# Altium schematic symbol library PCB_Project.SCHLIB: 9 symbols
Pins are listed as number, name and electrical type; pins without a type are passive.

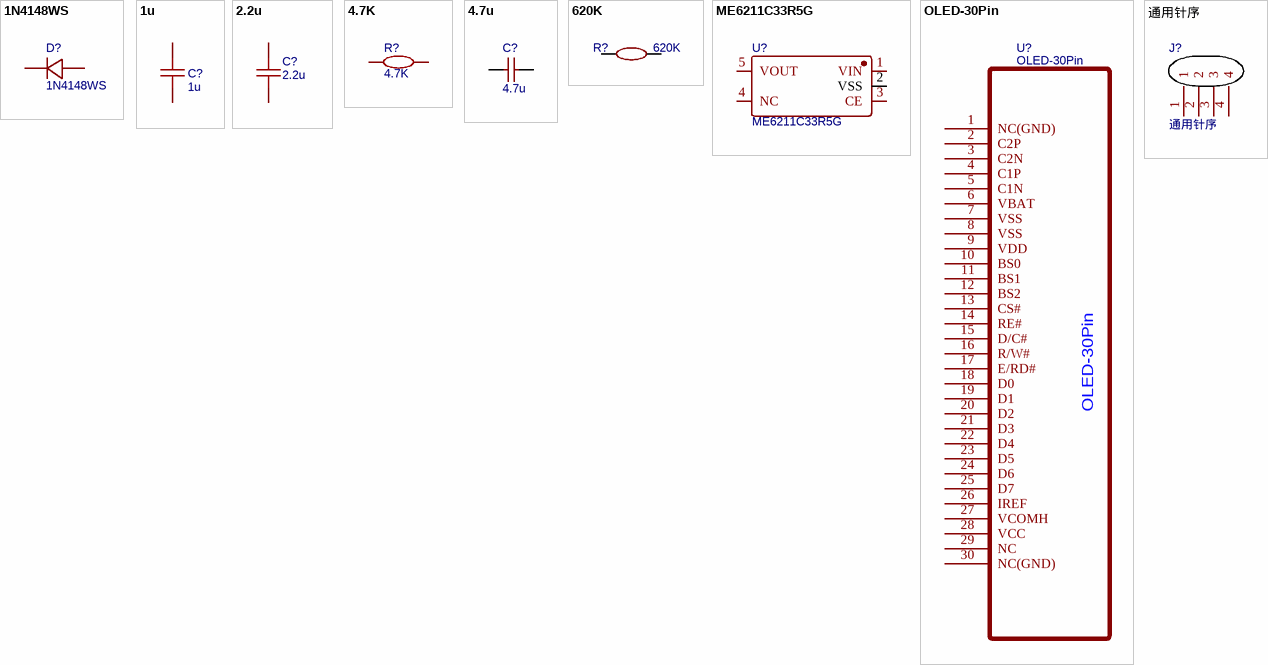
[diagram p0: symbols 1N4148WS to 通用针序]

## 1N4148WS
designator D?
BOM_Manufacturer: Jingdao; BOM_Supplier: LCSC; BOM_Manufacturer Part: 1N4148WS; BOM_Supplier Part: C108805; spicePre: D; spiceSymbolName: 1N4148WS-C108805
footprint SOD-323_L1.8-W1.3-LS2.5-RD
pins: 1 C, 2 A

## 1u
designator C?
BOM_Manufacturer: Huaxin S&T; BOM_Manufacturer Part: 0603X105K250CT; nameAlias: Capacitance; Contributor: LCSC; BOM_Supplier: LCSC; BOM_Supplier Part: C303883; spicePre: C; spiceSymbolName: 0603X105K250CT
footprint 0603C-3D
pins: 1, 2

## 2.2u
designator C?
BOM_Manufacturer: CCTC; BOM_Manufacturer Part: TCC0603X5R225K160CT; nameAlias: Capacitance; Contributor: LCSC; BOM_Supplier: LCSC; BOM_Supplier Part: C380320; spicePre: C; spiceSymbolName: TCC0603X5R225K160CT
footprint 0603C-3D
pins: 1, 2

## 4.7K
designator R?
BOM_Manufacturer: Tyohm; BOM_Manufacturer Part: RMC06034.7K1%N; nameAlias: Resistance (Ohms); Contributor: LCSC; BOM_Supplier: LCSC; BOM_Supplier Part: C269713; spicePre: R; spiceSymbolName: RMC06034.7K1%N
footprint 0603R-3D
pins: 1, 2

## 4.7u
designator C?
BOM_Manufacturer: FH; BOM_Manufacturer Part: 0603F475M160NT; nameAlias: Capacitance; BOM_Supplier: LCSC; BOM_Supplier Part: C94039; spicePre: C; spiceSymbolName: 0603F475M160NT
footprint 0603C-3D
pins: 1, 2

## 620K
designator R?
BOM_Manufacturer: UniOhm; BOM_Manufacturer Part: 0603WAF6203T5E; nameAlias: Resistance (Ohms); SMT Type: Basic; BOM_Supplier: LCSC; BOM_LCSC Assembly: Yes; BOM_Supplier Part: C23219; spicePre: R; spiceSymbolName: 0603WAF6203T5E
footprint 0603R-3D
pins: 1, 2

## ME6211C33R5G
designator U?
BOM_Manufacturer: Nanjing Micro One Elec; Contributor: LCSC; BOM_Supplier: LCSC; BOM_Supplier Part: C235316; BOM_Manufacturer Part: ME6211C33R5G; spicePre: U; spiceSymbolName: ME6211C33R5G
footprint SOT-353_L2.1-W1.3-P0.65-LS2.3-BL
pins: 1 VIN, 2 VSS, 3 CE, 4 NC, 5 VOUT

## OLED-30Pin
designator U?
Contributor: 222465.255411; spicePre: U; spiceSymbolName: OLED-30Pin
footprint 1.3-OLED
pins: 1 NC(GND), 2 C2P, 3 C2N, 4 C1P, 5 C1N, 6 VBAT, 7 VSS, 8 VSS, 9 VDD, 10 BS0, 11 BS1, 12 BS2, 13 CS#, 14 RE#, 15 D/C#, 16 R/W#, 17 E/RD#, 18 D0, 19 D1, 20 D2, 21 D3, 22 D4, 23 D5, 24 D6, 25 D7, 26 IREF, 27 VCOMH, 28 VCC, 29 NC, 30 NC(GND)

## 通用针序
designator J?
Contributor: 222465.255411; spicePre: J; spiceSymbolName: 2.54插针-4P
footprint PCBComponent_1 - duplicate
pins: 1, 2, 3, 4